# EAGLE library part HAB-BO-M8PICO (library HAB-BO-M8PICO)
HAB Supplies uBlox M8C Pico breakout board (product code HAB-BO-M8PICO-ASSY).
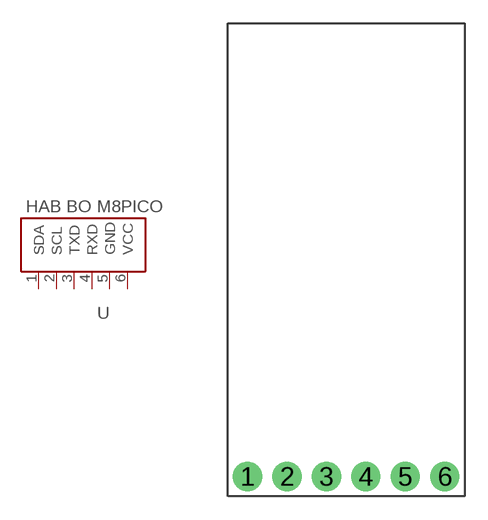
[diagram p0: symbol with the pads of HAB-BO-M8PICO; footprint HAB-BO-M8PICO]

Designator prefix -

## HAB-BO-M8PICONORMAL  [HAB-BO-M8PICO]
1  SDA
2  SCL
3  TXD
4  RXD
5  GND
6  VCC

## Footprint HAB-BO-M8PICO (pad centres in mm)
HAB Supplies uBlox M8C Pico breakout board (product code HAB-BO-M8PICO-ASSY).
drill 1.016 pad 1.88: 1 -5.08,-8.89; 2 -2.54,-8.89; 3 0,-8.89; 4 2.54,-8.89; 5 5.08,-8.89; 6 7.62,-8.89